# Altium integrated library Cats_and_Dogs_Schematics_ESE516.IntLib: 76 symbols (part 2 of 2)
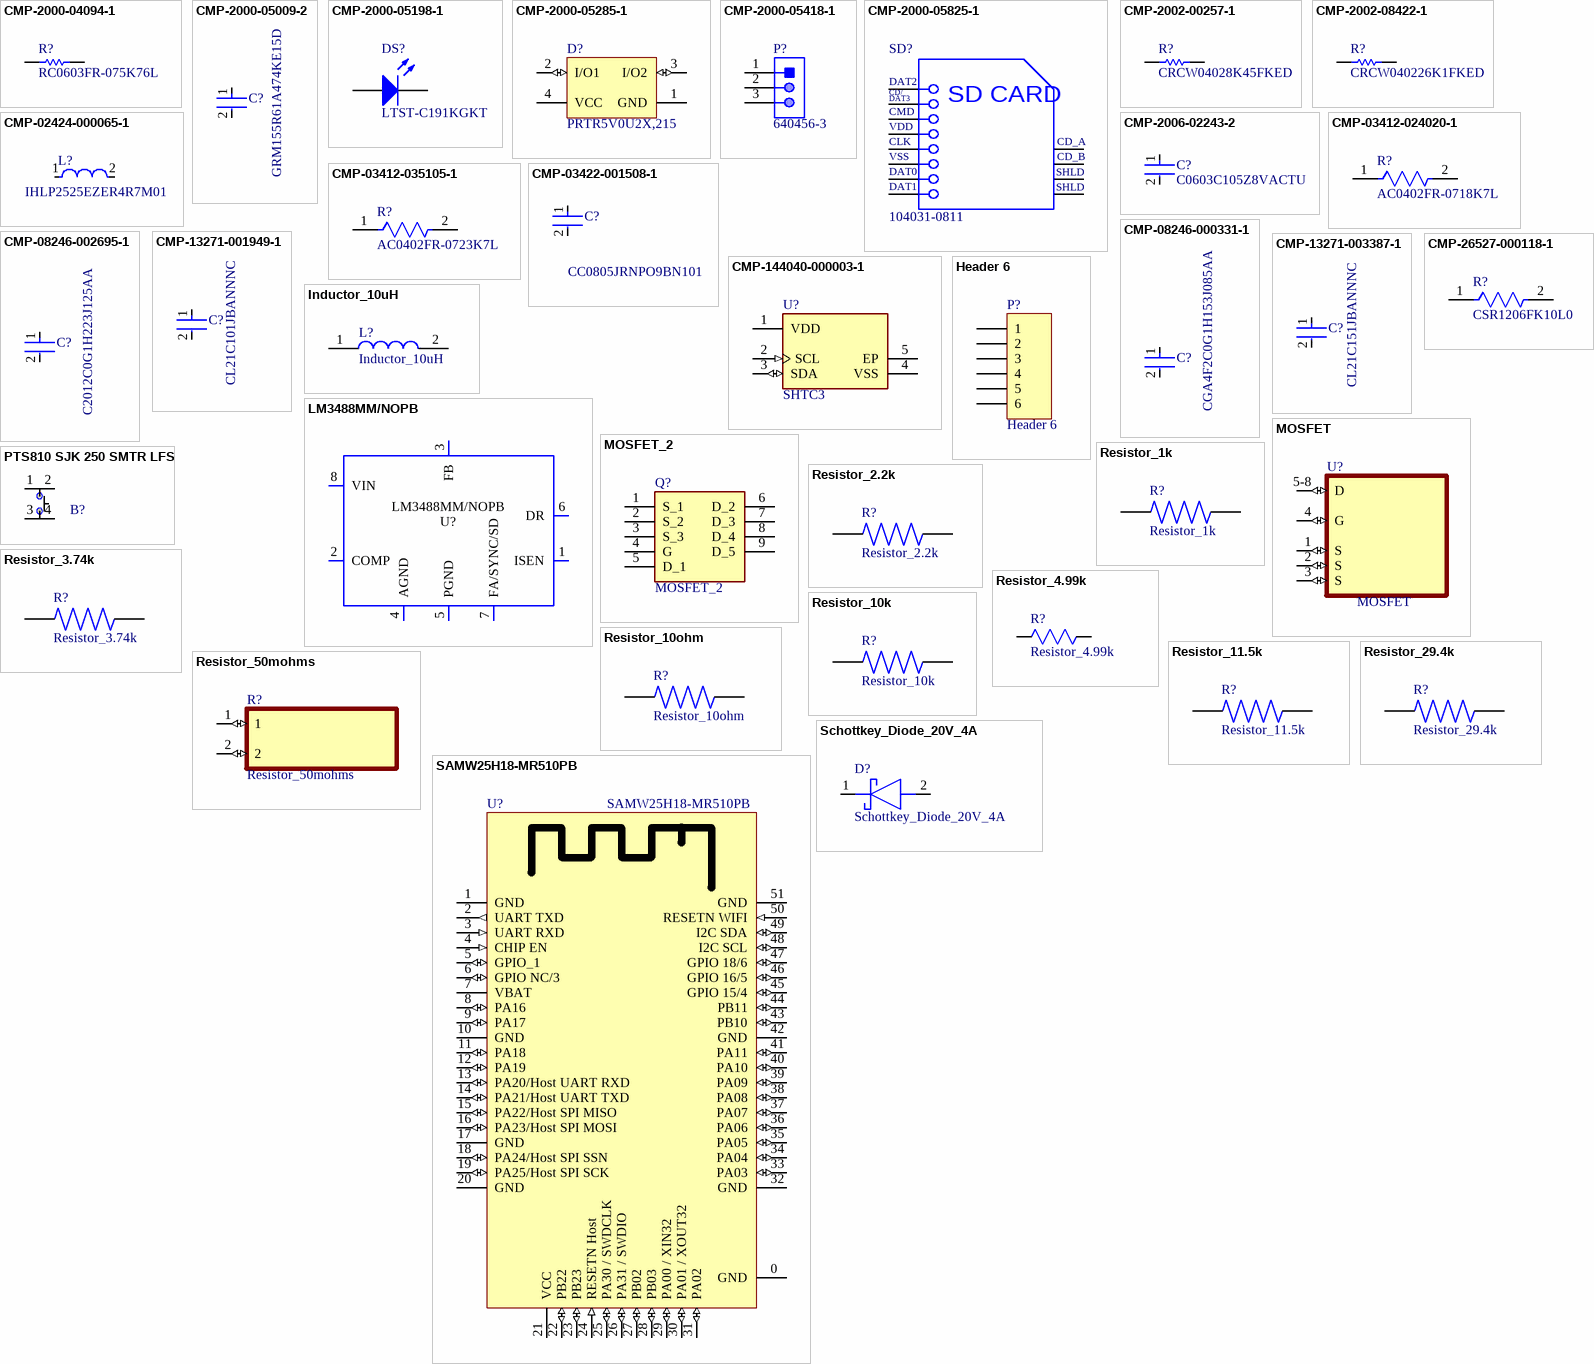
[diagram p2: symbols CMP-2000-04094-1 to Schottkey_Diode_20V_4A]

## CMP-2000-05198-1
designator DS?, comment LTST-C191KGKT
Chip LED, Green, 574 nm, 40 pF, -55 to 85 degC, 2-Pin SMD, RoHS, Tape and Reel; Manufacturer: Lite-On; Manufacturer: Vishay Lite-On; Rad Hardened: No; Emitting Color: YellowGreen; Product Height (mm): 0.55mm; Forward Voltage: 2.4V; Number of Elements: 1; Dominant Wave Length: 571nm; DELETED: Compliant; Viewing Angle: 130deg; High Brightness: Yes; Peak Wavelength: 574nm; Type: Uni-Color; Forward Current: 30mA; Product Length (mm): 1.6mm; Luminous Intensity: 35mcd; Test Current (It): 20mA; Chip Material: AlGaInP; Product Depth (mm): 0.8mm; Shape Type: Rectangular; Reverse Voltage: 5V; Power Dissipation: 75W; Pin Count: 2; Lens Dimensions: 1.1X0.8X0.37mm; Packaging: TapeandReel; Main Category: ChipLED; Operating Temperature Classification: Industrial; Package Type: ChipLed; Mounting: SurfaceMount; Lum Intensity: 35mcd; Operating Temp Range: -55Cto85C; Datasheet Version: Jan-07; Datasheet URL: http://download.siliconexpert.com/pdfs/2007/08/26/semi_b/manual/lot/ds/ltst-c191kgkt.pdf; Manufacturer URL: http://www.us.liteon.com/; Manufacturer Part Number: LTST-C191KGKT
footprint LITE-ON-LTST-C191KRKT-2_V (Chip, 2-Leads, Body 1.6x0.8mm)
pins: 1 A, 2 K

## CMP-2000-05285-1
designator D?, comment PRTR5V0U2X,215
Ultra Low Capacitance Double Rail-to-Rail ESD Protection Diode, 5.5 V, 1 pF, -40 to 85 degC, 4-Pin SOT143B, RoHS, Tape and Reel; Manufacturer: NXP Semiconductors; Manufacturer Part Number: PRTR5V0U2X215; Capacitance Value: 16pF; Number of Elements: 1; Rad Hardened: No; Reverse Breakdown Voltage: 6V; Working Voltage (Max): 5.5V; Polarity: Uni-Directional; Configuration: Quad; Leakage Current: 0.1uA; Product Height (mm): 1mm; Suppressor Type: DiodeArrays; Product Length (mm): 3mm; Product Depth (mm): 1.4mm; ESD Protection Voltage: 8KV@ContactDisc; Package Type: SOT; Mounting: SurfaceMount; Packaging: TapeandReel; Datasheet Version: Rev. 02, 01/2008; Reverse Stand-off Voltage: 5.5V; Manufacturer URL: http://www.nxp.com/; Operating Temp Range: -40Cto85C; Operating Temperature Classification: Industrial; Working Voltage: 5.5V; Operating Temperature Min Deg. C: -40C; Datasheet URL: https://datasheet.ciiva.com/4479/prtr5v0u2x-102853-4479461.pdf; Leakage Current (Max): 0.1uA; Direction Type: Uni-Directional; Pin Count: 3+Tab; Operating Temperature Max Deg. C: 85C; Mounting Style: SurfaceMount; Package / Case: SOT
footprint NXP-SOT143B-4_V (SOT143, 4-Leads, Body 3x1.4mm)
pins: 1 GND (power) "ground", 2 I/O1 (io) "input/output 1", 3 I/O2 (io) "input/output 2", 4 VCC (power) "supply voltage"

## CMP-2000-05418-1
designator P?, comment 640456-3
Male Header, Pitch 2.54 mm, 1 x 3 Position, Height 10.03 mm, Tail Length 3.56 mm, -55 to 105 degC; Manufacturer: TE Connectivity; Agency Approvals: CSA,UL; Angle: Straight; Number of Positions: 3; Standards: RoHSCompliant,ELVCompliant,UL94V-0; Current, Rating: 5 / A; Connector Type: MTA-100; Mount Angle: Vertical; Material, Housing: Polyester; Temperature, Operating: -55to+105 / degC; Voltage, Rating: 250 / V; Color, Housing: White; Contact Centerline Spacing: 0.100 / in.; Special Features: Pinstrip; Material, Contact: CopperAlloy; Contact Termination Area Plating: Tin; Primary Type: InterconnectSystem; Pin Spacing: 0.1 / "; Brand/Series: MTA-100Series; Mounting Hole Size: 0.04 / "; Manufacturer URL: http://www.te.com/; Datasheet URL: https://datasheet.ciiva.com/16456/eng-ds-82056-mta-0608-16456886.pdf; Flammability Rating: UL94V-0; Mounting Type: PCMount; Contact Mating Area Plating: Tin; Datasheet Version: Jun-08; Number of Rows: 1; Termination: Solder; Type: PCBPlug; Length, Pin: 0.14 / "; Color: White; Contact Plating: Tin; Contact Shape: Square; Number of Contacts: 3; Size, Post: 0.025 / in.; Length, Terminal Post: 0.14 / in.; Length, Overall: 0.3 / "; Manufacturer Part Number: 640456-3
footprint TECO-640456-3 (Through Hole, 3-Leads, Body 7.62x5.72mm, Pitch 2.54mm)
pins: 1, 2, 3

## CMP-2000-05825-1
designator SD?, comment 104031-0811
Micro SD Card, RA, -25 to 85 degC, 8-Pin SMD, RoHS, Tape and Reel; Manufacturer Part Number: 1040310811; Voltage Rating: 10VAC/DC; Number of Contacts: 8; Insertion - Extraction Style: Push-Pull; Pitch: 1.1mm; Mating Cycles: 10000; Brand: Molex; Current Rating: 500mA; Manufacturer URL: http://www.molex.com/; Card Type: microSD; Mounting Type: Standard; Height: 1.42mm; Mounting Technology: SurfaceMount; Contact Plating: Gold; Product Category: MemoryCardConnectors; Package Description: 8-Pin Surface Mount Device, Body 11.95 x 11.4 mm, Pitch 1.1 mm; Datasheet URL: http://www.molex.com/pdm_docs/sd/1040310811_sd.pdf; Termination Style: SMD; Length: 11.4mm; Housing Material: LiquidCrystalPolymer(LCP); Orientation: RightAngle; RoHS: True; Contact Material: PhosphorBronze; Datasheet Version: Rev. E, 04/2006; Packaging: Reel; Manufacturer: Molex; Series: 104031; Product: CardConnectors; Number of Rows: 1Row; Package Reference: 104031-0811
footprint MOLX-104031-0811_V (Micro SD, 8-Leads, Body 11.95x11.4mm, Pitch 1.1mm)
pins: 1 CD/DAT3, 2 CMD, 3 VSS1, 4 VDD, 5 CLK, 6 VSS2, 7 DAT0, 8 DAT1, 9 CD_A, 10 CD_B, 11 SHLD1, 12 SHLD2
text: DAT2; CD/; DAT3; SD CARD; VSS; SHLD

## CMP-2002-00257-1
designator R?, comment CRCW04028K45FKED
8.45 kOhms ±1% 0.063W, 1/16W Chip Resistor 0402 (1005 Metric) Automotive AEC-Q200 Thick Film; Manufacturer: Vishay Dale; Manufacturer: Vishay; Part Number: CRCW04028K45FKED; Manufacturer Part Number: CRCW04028K45FKED
footprint RESC1005X40X25LL05T05 (Chip Resistor, 2-Leads, Body 1.00x0.50mm, IPC High Density)
footprint RESC1005X40X25NL05T05 (Chip Resistor, 2-Leads, Body 1.00x0.50mm, IPC Medium Density)
footprint RESC1005X40X25ML05T05 (Chip Resistor, 2-Leads, Body 1.00x0.50mm, IPC Low Density)
pins: 1, 2
1 alternate drawing of the same symbol

## CMP-2002-08422-1
designator R?, comment CRCW040226K1FKED
26.1 kOhms ±1% 0.063W, 1/16W Chip Resistor 0402 (1005 Metric) Automotive AEC-Q200 Thick Film; Manufacturer: Vishay Dale; Manufacturer: Vishay; Part Number: CRCW040226K1FKED; Manufacturer Part Number: CRCW040226K1FKED
footprint RESC1005X40X25LL05T05 (Chip Resistor, 2-Leads, Body 1.00x0.50mm, IPC High Density)
footprint RESC1005X40X25ML05T05 (Chip Resistor, 2-Leads, Body 1.00x0.50mm, IPC Low Density)
footprint RESC1005X40X25NL05T05 (Chip Resistor, 2-Leads, Body 1.00x0.50mm, IPC Medium Density)
pins: 1, 2
1 alternate drawing of the same symbol

## CMP-2006-02243-2
designator C?, comment C0603C105Z8VACTU
CAP CER 1UF 10V Y5V 0603; Manufacturer: KEMET; Dielectric Material: Ceramic; Tolerance: 80%; Dissipation Factor: 10%; Case/Package: 0603; Width: 0.8mm; Radiation Hardening: No; Lead Pitch: 0.7mm; Termination: SMD/SMT; Min Operating Temperature: -30°C; Voltage Rating (DC): 10V; Length: 1.6mm; Packaging: Tape and Reel; Mount: Surface Mount; REACH SVHC: No SVHC; Series: C; Case Code (Imperial): 0603; Package Quantity: 1; Thickness: 0.035inch; Capacitance: 1uF; Height: 0.8mm; Dielectric: Y5V; Construction: Flat; Lead Free: Lead Free; Case Code (Metric): 1608; Max Operating Temperature: 85°C; Voltage Rating: 10V; Depth: 0.8mm; RoHS Compliant: Yes; Manufacturer Part Number: C0603C105Z8VACTU
footprint FP-C0603-CG-MFG
footprint FP-C0603-CG-IPC_C
footprint FP-C0603-CG-IPC_B
footprint FP-C0603-CG-IPC_A
pins: 1, 2

## CMP-02424-000065-1
designator L?, comment IHLP2525EZER4R7M01
Commercial Inductors, High Saturation Series 4.7uH 6.5A 30.3mΩ 20%; Manufacturer: Vishay Dale; DC Resistance (DCR): 30.3mR; Saturation Current: 7A; Shielding: Shielded; Core Material: Ferrite; Self Resonant Frequency: 1MHz; Test Frequency: 100kHz; Number of Pins: 2; Case/Package: 2525; Lead Free: Lead Free; Depth: 6.72mm; Height - Seated (Max): 0.197inch; Mount: Surface Mount; Termination: SMD/SMT; Max Operating Temperature: 125°C; Inductance Tolerance: 20%; Military Standard: Not; Height: 5mm; RMS Current (Irms): 6.5A; Current Rating: 6.5A; Radiation Hardening: No; Package Quantity: 500; Packaging: Tape and Reel; Width: 0.255inch; Max DC Current: 6.5A; Length: 6.86mm; Min Operating Temperature: -55°C; Tolerance: 20%; Inductance: 4.7uH; Manufacturer Part Number: IHLP2525EZER4R7M01
footprint FP-IHLP-2525EZ-FP_2_413x3-MFG
pins: 1, 2

## CMP-03412-024020-1
designator R?, comment AC0402FR-0718K7L
RES SMD 18.7K OHM 1% 1/16W 0402; Manufacturer: Yageo; Power Rating: 0.0625W; Voltage Rating: 50V; Tolerance: 0.01; Resistance: 18.7KΩ; Automotive Grade: Grade 0; Value: 18.7KΩ; Octopart: https://octopart.com/ac0402fr-0718k7l-yageo-71366607; Device Class L1: Passive Components; Digikey Description: RES SMD 18.7K OHM 1% 1/16W 0402; Composition: Thick Film; Device Class L3: Chip SMD Resistors; Manufacturer Part Number: AC0402FR-0718K7L; Series: AC; Footprint Url: http://www.yageo.com/exep/pages/download/literatures/PYu-R_Mount_10.pdf; RoHS: TRUE; Ipc Land Pattern Name: RESC10050X32; ComponentLink2Description: Datasheet; Temperature Range High: +155°C; Package: AC0402; Automotive: Yes; Device Class L2: Resistors; ComponentLink2URL: http://www.yageo.com/documents/recent/PYu-AC_51_RoHS_L_6.pdf; Temperature: -55°C to +155°C; Height: 0.37mm; Lead Free: Yes; Category: Res; Temperature Range Low: -55°C
footprint FP-AC0402-MFG
footprint FP-AC0402-IPC_C
footprint FP-AC0402-IPC_B
footprint FP-AC0402-IPC_A
pins: 1, 2

## CMP-03412-035105-1
designator R?, comment AC0402FR-0723K7L
RES SMD 23.7K OHM 1% 1/16W 0402; Manufacturer: Yageo; Power Rating: 0.0625W; Value: 23.7KΩ; Voltage Rating: 50V; Tolerance: 0.01; Automotive Grade: Grade 0; Device Class L3: Chip SMD Resistors; Device Class L2: Resistors; Octopart: https://octopart.com/ac0402fr-0723k7l-yageo-71366670; Composition: Thick Film; Mouser Description: Thick Film Resistors - SMD 1/16W 23.7K ohm 1% AEC-Q200; Lead Free: Yes; Height: 0.37mm; Temperature: -55°C to +155°C; Temperature Range High: +155°C; Device Class L1: Passive Components; Package: AC0402; Digikey Description: RES SMD 23.7K OHM 1% 1/16W 0402; Temperature Range Low: -55°C; Footprint Url: http://www.yageo.com/exep/pages/download/literatures/PYu-R_Mount_10.pdf; ComponentLink2Description: Datasheet; Automotive: Yes; ComponentLink2URL: http://www.yageo.com/documents/recent/PYu-AC_51_RoHS_L_6.pdf; Category: Res; Manufacturer Part Number: AC0402FR-0723K7L; Ipc Land Pattern Name: RESC10050X32; RoHS: TRUE; Resistance: 23.7KΩ; Series: AC
footprint FP-AC0402-MFG
footprint FP-AC0402-IPC_C
footprint FP-AC0402-IPC_B
footprint FP-AC0402-IPC_A
pins: 1, 2

## CMP-03422-001508-1
designator C?, comment CC0805JRNPO9BN101
CAP CER 100PF 50V C0G/NPO 0805; Manufacturer: Yageo; Insulation Resistance: 100GR; Dielectric: C0G; Temperature Coefficient: 30ppm/°C; Dielectric Material: Ceramic; Tolerance: 5%; REACH SVHC: No SVHC; Packaging: Tape and Reel; Max Operating Temperature: 125°C; Case Code (Imperial): 0805; Number of Pins: 2; Height: 0.6mm; Case/Package: 0805; Resistor Type: Ceramic; Length: 2mm; Width: 1.25mm; RoHS Compliant: Yes; Thickness: 0.024inch; Case Code (Metric): 2012; Radiation Hardening: No; Series: CC; Package Quantity: 1; Voltage: 50V; Voltage Rating (DC): 50V; Capacitance: 100pF; Mount: Surface Mount; Voltage Rating: 50V; Min Operating Temperature: -55°C; Lead Free: Lead Free; Termination: SMD/SMT; Depth: 1.25mm; Manufacturer Part Number: CC0805JRNPO9BN101
footprint FP-CC0805-0_1-0_7-IPC_A
footprint FP-CC0805-0_1-0_7-IPC_B
footprint FP-CC0805-0_1-0_7-IPC_C
footprint FP-CC0805-0_1-0_7-MFG
pins: 1, 2

## CMP-08246-000331-1
designator C?, comment CGA4F2C0G1H153J085AA
Cap Ceramic 15nF 50V C0G 5% Pad SMD 0805 +125°C Automotive T/R; Manufacturer: TDK; Weight: 0.000194oz; Width: 0.049inch; Tolerance: 5%; REACH SVHC: No SVHC; Voltage Rating (DC): 50V; Case Code (Imperial): 0805; Depth: 1.25mm; Voltage Rating: 50V; Case Code (Metric): 2012; Thickness: 0.037inch; Height: 0.85mm; Max Operating Temperature: 125°C; Termination: SMD/SMT; Packaging: Tape and Reel; Mount: Surface Mount; Dielectric: C0G; Package Quantity: 1; Case/Package: 0805; Ratings: AEC-Q200; Capacitance: 15nF; Composition: Ceramic; Lead Free: Lead Free; Length: 2mm; Min Operating Temperature: -55°C; Manufacturer Part Number: CGA4F2C0G1H153J085AA
footprint FP-CGA4J-IPC_B
footprint FP-CGA4J-IPC_C
footprint FP-CGA4J-MFG
footprint FP-CGA4J-IPC_A
pins: 1, 2

## CMP-08246-002695-1
designator C?, comment C2012C0G1H223J125AA
CAP CER 0.022UF 50V C0G 0805; Manufacturer: TDK; Capacitance: 22nF; Tolerance: 5%; Dielectric Material: Ceramic; Temperature Coefficient: 30ppm/°C; Max Operating Temperature: 125°C; Voltage Rating: 50V; Packaging: Tape and Reel; Dielectric: C0G; Voltage Rating (DC): 50V; Package Quantity: 1; Case/Package: 0805; REACH SVHC: No SVHC; Weight: 0.000194oz; Length: 2mm; Case Code (Imperial): 0805; Height: 1.25mm; Series: C; Termination: SMD/SMT; Width: 0.049inch; Min Operating Temperature: -55°C; Lead Free: Lead Free; RoHS Compliant: Yes; Mount: Surface Mount; Thickness: 0.057inch; Radiation Hardening: No; Depth: 1.25mm; Voltage: 50V; Case Code (Metric): 2012; Construction: Flat; Manufacturer Part Number: C2012C0G1H223J125AA
footprint FP-C2012-125-0_2-IPC_C
footprint FP-C2012-125-0_2-IPC_B
footprint FP-C2012-125-0_2-MFG
footprint FP-C2012-125-0_2-IPC_A
pins: 1, 2

## CMP-13271-001949-1
designator C?, comment CL21C101JBANNNC
CL21 Series 0805 100pF 50V ±5% Tolerance C0G Multilayer Ceramic Chip Capacitor; Manufacturer: Samsung; Temperature Coefficient: 300ppm/°C; Voltage Rating (DC): 50V; Material: Ceramic; Capacitance: 100pF; Height: 0.65mm; Thickness: 0.03inch; Case/Package: 0805; Voltage Rating: 50V; Max Operating Temperature: 125°C; Voltage: 50V; Dielectric: C0G; Length: 2mm; Case Code (Metric): 2012; Packaging: Tape and Reel; Tolerance: 5%; Min Operating Temperature: -55°C; Radiation Hardening: No; Lead Free: Lead Free; Contact Plating: Tin; Width: 0.049inch; Mount: Surface Mount; Case Code (Imperial): 0805; Depth: 1.25mm; Manufacturer Part Number: CL21C101JBANNNC
footprint FP-CL21-IPC_C
footprint FP-CL21-IPC_B
footprint FP-CL21-IPC_A
pins: 1, 2

## CMP-13271-003387-1
designator C?, comment CL21C151JBANNNC
CL21 Series 0805 150pF 50V ±5% Tolerance C0G Multilayer Ceramic Chip Capacitor; Manufacturer: Samsung; Height: 0.65mm; Case Code (Metric): 2012; Material: Ceramic; Voltage Rating: 50V; Length: 2mm; Package Quantity: 1; Mount: Surface Mount; Case Code (Imperial): 0805; Depth: 1.25mm; Dielectric: C0G; Contact Plating: Tin; Thickness: 0.03inch; Case/Package: 0805; Max Operating Temperature: 125°C; Min Operating Temperature: -55°C; Tolerance: 5%; Packaging: Tape and Reel; Radiation Hardening: No; Voltage: 50V; Capacitance: 150pF; Width: 0.049inch; Manufacturer Part Number: CL21C151JBANNNC
footprint FP-CL21-IPC_B
footprint FP-CL21-IPC_C
footprint FP-CL21-IPC_A
pins: 1, 2

## CMP-26527-000118-1
designator R?, comment CSR1206FK10L0
RES 0.01 OHM 1% 1/2W 1206; Manufacturer: Stackpole Electronics; Max Power Dissipation: 500mW; Temperature Coefficient: 100ppm/°C; Resistance: 10mR; RoHS Compliant: Yes; Construction: Rectangular; Resistor Type: Thick Film; Military Standard: Not; Lead Free: Lead Free; Size Code: 1206; Case/Package: 1206; Case Code (Metric): 3216; Radiation Hardening: No; Contact Plating: Tin; Series: CSR; Max Operating Temperature: 155°C; Power Rating: 500mW; Mount: Surface Mount; Number of Terminations: 2; Packaging: Tape and Reel; Length: 0.12inch; Min Operating Temperature: -55°C; Width: 0.061inch; Depth: 1.55mm; Case Code (Imperial): 1206; Height: 0.026inch; Tolerance: 1%; Manufacturer Part Number: CSR1206FK10L0
footprint FP-CSR1206-MFG
footprint FP-CSR1206-IPC_B
footprint FP-CSR1206-IPC_C
footprint FP-CSR1206-IPC_A
pins: 1, 2

## CMP-144040-000003-1
designator U?, comment SHTC3
SENSOR HUMI/TEMP I2C 2% SMD; Manufacturer: Sensirion; Operating Supply Current: 0.3-900uA; Resolution: 16bits; Min Supply Voltage: 1.62V; Max Supply Voltage: 3.6V; Category: IC; Device Class L3: unset; ComponentLink2URL: https://www.sensirion.com/fileadmin/user_upload/customers/sensirion/Dokumente/0_Datasheets/Humidity/Sensirion_Humidity_Sensors_SHTC3_Datasheet.pdf; Ipc Land Pattern Name: DFN200X200X75-4; RoHS: TRUE; Height: 0.75mm; Interface: I2C; Temperature Range High: +125°C; Accuracy: 2%; Sensor Output: I2C; Automotive: No; Package: 0; Device Class L1: Sensors; Manufacturer Part Number: SHTC3; Digikey Description: SENSOR HUMI/TEMP I2C 2% SMD; Lead Free: Yes; Temperature: -40°C to +125°C; Device Class L2: Temperature and Humidity Sensors; ComponentLink2Description: Datasheet; Octopart: https://octopart.com/shtc3-sensirion-91912225; Mouser Description: SHTC3 Series 0 to 100% RH 3.6 V Humidity and Temperature Sensor IC - DFN-4; Temperature Range Low: -40°C
footprint FP-SHTC3-MFG
footprint FP-SHTC3-IPC_C
footprint FP-SHTC3-IPC_B
footprint FP-SHTC3-IPC_A
pins: 1 VDD (power), 2 SCL (in), 3 SDA (io), 4 VSS (power), 5 EP (power)

## Header 6
designator P?
Header, 6-Pin; LatestRevisionDate: 17-Jul-2002; LatestRevisionNote: Re-released for DXP Platform.; Publisher: Altium Limited
footprint HDR1X6 (Connector; Header; 6 Position)
signal-integrity model Connector
pins: 1, 2, 3, 4, 5, 6

## Inductor_10uH
designator L?
Inductor Power Semi-Shielded Wirewound 10uH 20% 100KHz 17Q-Factor Ferrite 2.5A 58.6mOhm DCR T/R; Manufacturer: Bourns; Manufacturer Part Number: SRN6045-100M; Material: Steel; DC Resistance (DCR): 58.6mR; Saturation Current: 3A; Self Resonant Frequency: 15MHz; Supplier 1: Digi-Key; Supplier Part Number 1: SRN6045-100MCT-ND; RoHS: Yes; Category: Fixed Inductors; Stock 1: 1938; Pricing 1: 1=0.62000, 10=0.54400, 25=0.50520, 50=0.42740, 100=0.38860, 250=0.36528, 500=0.32640 (USD); Mount: Surface Mount; Case/Package: Nonstandard; Number of Pins: 2; Core Material: Ferrite; Weight: 0.027725oz; Min Operating Temperature: -40°C; Max Operating Temperature: 125°C; Tolerance: 20%; Inductance: 10uH; Max DC Current: 2.5A; Package Quantity: 1; Current Rating: 2.5A; Shielding: Shielded; Packaging: Tape and Reel; Inductance Tolerance: 20%; Resistor Type: Wirewound; Test Frequency: 100kHz; Termination: SMD/SMT; RMS Current (Irms): 2.5A; DC Current: 2.5A; Series: SRN6045; Sample Rate (Hz): 100kHz; Length: 6mm; Width: 6mm; Height: 4.5mm; Height - Seated (Max): 0.177inch; Depth: 6.2mm; REACH SVHC: No SVHC; Military Standard: Not; RoHS Compliant: Yes; ComponentLink1URL: https://datasheet.ciiva.com/11802/0900766b80fe1f3e-11802575.pdf?src-supplier=RSComponents; ComponentLink1Description: https://datasheet.ciiva.com/11802/0900766b80fe1f3e-11802575.pdf?src-supplier=RSComponents; ComponentLink2URL: https://datasheet.ciiva.com/6689/srn6045-6689370.pdf?src-supplier=Digi-Key; ComponentLink2Description: https://datasheet.ciiva.com/6689/srn6045-6689370.pdf?src-supplier=Digi-Key; ComponentLink3URL: https://datasheet.ciiva.com/6689/srn6045-6689372.pdf?src-supplier=Digi-Key; ComponentLink3Description: https://datasheet.ciiva.com/6689/srn6045-6689372.pdf?src-supplier=Digi-Key; ComponentLink4URL: https://datasheet.ciiva.com/6689/srn6045-6689374.pdf?src-supplier=Digi-Key; ComponentLink4Description: https://datasheet.ciiva.com/6689/srn6045-6689374.pdf?src-supplier=Digi-Key; ComponentLink5URL: https://datasheet.ciiva.com/8512/srn6045-8512981.pdf?src-supplier=Avnet; ComponentLink5Description: https://datasheet.ciiva.com/8512/srn6045-8512981.pdf?src-supplier=Avnet; ComponentLink6URL: https://datasheet.ciiva.com/7849/1875285-7849518.pdf?src-supplier=Element14; ComponentLink6Description: https://datasheet.ciiva.com/7849/1875285-7849518.pdf?src-supplier=Element14; ComponentLink7URL: https://datasheet.ciiva.com/17113/70231653-17113272.pdf?src-supplier=Allied+Electronics; ComponentLink7Description: https://datasheet.ciiva.com/17113/70231653-17113272.pdf?src-supplier=Allied+Electronics; ComponentLink8URL: https://datasheet.ciiva.com/28561/1875285-28561101.pdf?src-supplier=Element14; ComponentLink8Description: https://datasheet.ciiva.com/28561/1875285-28561101.pdf?src-supplier=Element14; ComponentLink9URL: https://datasheet.ciiva.com/17284/srn6045-17284746.pdf?src-supplier=Avnet+Europe; ComponentLink9Description: https://datasheet.ciiva.com/17284/srn6045-17284746.pdf?src-supplier=Avnet+Europe; ComponentLink10URL: https://datasheet.ciiva.com/48691/001056442-da-01-en-mag-abg-leist-ind-srn6045-100m-10uh-smd-48691818.pdf?src-supplier=Conrad; ComponentLink10Description: https://datasheet.ciiva.com/48691/001056442-da-01-en-mag-abg-leist-ind-srn6045-100m-10uh-smd-48691818.pdf?src-supplier=Conrad
footprint Inductor_10uH
pins: 1, 2

## LM3488MM/NOPB
designator U?
Manufacturer Name: Texas Instruments; PackageReference: LM3488MM/NOPB; Manufacturer Part Number: LM3488MM/NOPB; Value: N/A
footprint Boost_Converter_Footprint
pins: 1 ISEN, 2 COMP, 3 FB, 4 AGND, 5 PGND, 6 DR, 7 FA/SYNC/SD, 8 VIN

## MOSFET
designator U?
N沟道 VDS=30V VGS=+10V，-8V ID=14A P=2.7W; Manufacturer: Texas Instruments; Manufacturer Part Number: CSD17308Q3T; Max Power Dissipation: 2.7W; Element Configuration: Single; Drain to Source Voltage (Vdss): 30V; Continuous Drain Current (ID): 44A; Rds On Max: 10.3mR; Input Capacitance: 700pF; Threshold Voltage: 1.3V; Supplier 1: Digi-Key; Supplier Part Number 1: 296-44075-6-ND; RoHS: Yes; Category: Integrated Circuits (ICs); Pricing 1: 1=1.06000, 10=0.94800, 100=0.73880 (USD); Mount: Surface Mount; Number of Pins: 8; Min Operating Temperature: -55°C; Max Operating Temperature: 150°C; Packaging: Tape and Reel; Lead Free: Contains Lead; REACH SVHC: No SVHC; RoHS Compliant: Yes; ComponentLink1URL: http://www.ti.com/lit/pdf/slvt145?src-supplier=Digi-Key; ComponentLink1Description: http://www.ti.com/lit/pdf/slvt145?src-supplier=Digi-Key; ComponentLink2URL: http://www.ti.com/lit/ds/symlink/csd17308q3.pdf?src-supplier=Digi-Key; ComponentLink2Description: http://www.ti.com/lit/ds/symlink/csd17308q3.pdf?src-supplier=Digi-Key; ComponentLink3URL: http://www.ti.com/lit/gpn/csd17308q3?src-supplier=Mouser; ComponentLink3Description: http://www.ti.com/lit/gpn/csd17308q3?src-supplier=Mouser; ComponentLink4URL: http://www.ti.com/general/docs/lit/getliterature.tsp?genericPartNumber=CSD17308Q3&&fileType=pdf&src-supplier=Element14; ComponentLink4Description: http://www.ti.com/general/docs/lit/getliterature.tsp?genericPartNumber=CSD17308Q3&&fileType=pdf&src-supplier=Element14
footprint MOSFET
pins: 1 S (io), 2 S (io), 3 S (io), 4 G (io), 5-8 D (io)

## MOSFET_2
designator Q?
25-V, N channel NexFET™ power MOSFET, single SON 5 mm x 6 mm, 5.5 mOhm 8-VSONP -55 to 150; Manufacturer: Texas Instruments; Manufacturer Part Number: CSD16342Q5A; Rds On Max: 4.7mR; Drain to Source Voltage (Vdss): 25V; Continuous Drain Current (ID): 100A; Max Power Dissipation: 3W; Input Capacitance: 1.35nF; Rise Time: 16.6ns; Drain to Source Resistance: 3.8mR; Number of Elements: 1; Gate to Source Voltage (Vgs): 10V; Threshold Voltage: 850mV; Turn-On Delay Time: 5.2ns; Turn-Off Delay Time: 13.4ns; Fall Time: 3.1ns; Polarity: N-CHANNEL; Supplier 1: Digi-Key; Supplier Part Number 1: 296-30314-1-ND; RoHS: Yes; Category: Integrated Circuits (ICs); Stock 1: 6285; Pricing 1: 1=1.22000, 10=1.08700, 100=0.84760, 500=0.70016, 1000=0.58625 (USD); Mount: Surface Mount; Case/Package: SON; Number of Pins: 8; Contact Plating: Tin; Min Operating Temperature: -55°C; Max Operating Temperature: 150°C; Packaging: Tape and Reel; Series: NexFET™; Package Quantity: 1; Power Dissipation: 3W; Element Configuration: Single; Length: 5.8mm; Width: 5mm; Height: 1.1mm; Radiation Hardening: No; REACH SVHC: No SVHC; Lead Free: Contains Lead; RoHS Compliant: Yes; ComponentLink1URL: https://datasheet.ciiva.com/6387/csd16342q5a-6387160.pdf?src-supplier=Digi-Key; ComponentLink1Description: https://datasheet.ciiva.com/6387/csd16342q5a-6387160.pdf?src-supplier=Digi-Key; ComponentLink2URL: https://datasheet.ciiva.com/4444/slps369a-128079-4444253.pdf?src-supplier=Mouser; ComponentLink2Description: https://datasheet.ciiva.com/4444/slps369a-128079-4444253.pdf?src-supplier=Mouser; ComponentLink3URL: https://datasheet.ciiva.com/6387/csd16342q5a-6387162.pdf?src-supplier=Digi-Key; ComponentLink3Description: https://datasheet.ciiva.com/6387/csd16342q5a-6387162.pdf?src-supplier=Digi-Key; ComponentLink4URL: https://datasheet.ciiva.com/6387/csd16342q5a-6387165.pdf?src-supplier=Digi-Key; ComponentLink4Description: https://datasheet.ciiva.com/6387/csd16342q5a-6387165.pdf?src-supplier=Digi-Key; ComponentLink5URL: https://datasheet.ciiva.com/14192/csd16342q5a-14192879.pdf?src-supplier=Avnet; ComponentLink5Description: https://datasheet.ciiva.com/14192/csd16342q5a-14192879.pdf?src-supplier=Avnet
footprint MOSFET_2
pins: 1 S_1, 2 S_2, 3 S_3, 4 G, 5 D_1, 6 D_2, 7 D_3, 8 D_4, 9 D_5

## PTS810 SJK 250 SMTR LFS
designator B?  (value not drawn)
SWITCH TACTILE SPST-NO 0.05A 16V Tactile Switch SPST-NO Top Actuated Surface Mount; Manufacturer: ITT /  C&K Components; Part # Aliases: Y97LT25B5DBFP; Operating Force: 2.6 N; Actuator: Oval; Current Rating: 50 mA; Voltage Rating DC: 16 VDC; Contact Form: SPST; Switch Function: OFF - (ON); Mounting Direction: Straight; Stem Height: 2.5 mm; Brand: C&K Components; Travel: 0.15 mm; Manufacturer Part Number: PTS810SJK250SMTRLFS; Product Category: Tactile Switches; RoHS: Details; Termination Style: J Form Lead; Mounting Style: SMD/SMT; Color: White; Packaging: Reel; Contact Plating: Silver; Operating Temperature Range: - 40 C to + 85 C; Series: PTS810; Factory Pack Quantity: 2900; ComponentLink1URL: https://datasheet.ciiva.com/18514/pts810-4mar13-18514061.pdf; ComponentLink1Description: https://datasheet.ciiva.com/18514/pts810-4mar13-18514061.pdf; ComponentLink2URL: https://datasheet.ciiva.com/18514/pts810-4mar13-18514062.pdf; ComponentLink2Description: https://datasheet.ciiva.com/18514/pts810-4mar13-18514062.pdf; ComponentLink3URL: https://datasheet.ciiva.com/18514/pts810-4mar13-18514063.pdf; ComponentLink3Description: https://datasheet.ciiva.com/18514/pts810-4mar13-18514063.pdf; Supplier 1: Digi-Key; Supplier Part Number 1: CKN10503CT-ND
footprint PTS810 SJK 250 SMTR LFS (SWITCH TACTILE SPST-NO 0.05A 16V)
pins: 1 (power), 2 (power), 3 (power), 4 (power)

## Resistor_1k
designator R?
Res Thick Film 0603 1K Ohm 1% 0.1W(1/10W) ±100ppm/C Pad SMD Automotive T/R; Manufacturer: TE Connectivity; Manufacturer Part Number: 1-2176092-8; Resistance: 1kR; Tolerance: 0.1%; Power Rating: 250mW; Temperature Coefficient: 25ppm/°C; Voltage Rating: 150V; Number of Resistors: 1; Supplier 1: Digi-Key; Supplier Part Number 1: A110543CT-ND; RoHS: Yes; Category: Chip SMD Resistors; Stock 1: 9833; Pricing 1: 1=0.64000, 10=0.47400, 100=0.27590 (USD); Mount: Surface Mount; Case/Package: 0805; Case Code (Metric): 2012; Case Code (Imperial): 0805; Min Operating Temperature: -55°C; Max Operating Temperature: 155°C; Packaging: Tape and Reel; Resistor Type: Thin Film; Termination: Solder; Package Quantity: 1000; Number of Terminations: 2; Max Power Dissipation: 250mW; Length: 0.079inch; Width: 0.049inch; Height: 0.026inch; RoHS Compliant: Yes; Lead Free: Lead Free; ComponentLink1URL: https://datasheet.ciiva.com/41821/eng-ds-1773272-j-41821837.pdf?src-supplier=Digi-Key; ComponentLink1Description: https://datasheet.ciiva.com/41821/eng-ds-1773272-j-41821837.pdf?src-supplier=Digi-Key; ComponentLink2URL: https://datasheet.ciiva.com/41823/eng-ds-1773272-j-41823324.pdf?src-supplier=Digi-Key; ComponentLink2Description: https://datasheet.ciiva.com/41823/eng-ds-1773272-j-41823324.pdf?src-supplier=Digi-Key; ComponentLink3URL: https://datasheet.ciiva.com/41808/eng-ds-1773272-j-41808533.pdf?src-supplier=Digi-Key; ComponentLink3Description: https://datasheet.ciiva.com/41808/eng-ds-1773272-j-41808533.pdf?src-supplier=Digi-Key; Supplier 2: Digi-Key; Supplier Part Number 2: RMCF0603FT1K00CT-ND; Stock 2: 2; Pricing 2: 1=0.10000, 10=0.01700, 100=0.00680, 1000=0.00305, 2500=0.00264 (USD); Contact Plating: Tin,Matte; Size Code: 0603; Features: Automotive AEC-Q200; Series: RMCF; Construction: Rectangular; Depth: 0.8mm; Radiation Hardening: No; Military Standard: Not; ComponentLink4URL: https://www.seielect.com/catalog/sei-rmcf_rmcp.pdf?src-supplier=Digi-Key; ComponentLink4Description: https://www.seielect.com/catalog/sei-rmcf_rmcp.pdf?src-supplier=Digi-Key; ComponentLink5URL: https://www.seielect.com/catalog/SEI-RMCF_RMCP.pdf?src-supplier=Avnet; ComponentLink5Description: https://www.seielect.com/catalog/SEI-RMCF_RMCP.pdf?src-supplier=Avnet; ComponentLink6URL: https://www.seielect.com/catalog/SEI-Packaging.pdf?src-supplier=Avnet; ComponentLink6Description: https://www.seielect.com/catalog/SEI-Packaging.pdf?src-supplier=Avnet; ComponentLink7URL: https://www.seielect.com/catalog/SEI-Packaging.pdf?src-supplier=Arrow+Electronics; ComponentLink7Description: https://www.seielect.com/catalog/SEI-Packaging.pdf?src-supplier=Arrow+Electronics; ComponentLink8URL: https://www.seielect.com/catalog/SEI-RMCF_RMCP.pdf?src-supplier=Avnet+Asia; ComponentLink8Description: https://www.seielect.com/catalog/SEI-RMCF_RMCP.pdf?src-supplier=Avnet+Asia; ComponentLink9URL: http://www.seielect.com/Catalog/SEI-rmc.pdf?src-supplier=Future+Electronics; ComponentLink9Description: http://www.seielect.com/Catalog/SEI-rmc.pdf?src-supplier=Future+Electronics; ComponentLink10URL: https://www.seielect.com/catalog/SEI-Packaging.pdf?src-supplier=Verical; ComponentLink10Description: https://www.seielect.com/catalog/SEI-Packaging.pdf?src-supplier=Verical; ComponentLink11URL: https://www.seielect.com/catalog/SEI-Packaging.pdf?src-supplier=Quest; ComponentLink11Description: https://www.seielect.com/catalog/SEI-Packaging.pdf?src-supplier=Quest
footprint Resistor_1k
pins: 1, 2

## Resistor_2.2k
designator R?
Res Thick Film 0805 2.2K Ohm 5% 1/3W ±100ppm/°C Molded SMD SMD T/R; Manufacturer: TE Connectivity Holsworthy; Manufacturer Part Number: CRGH0805J2K2; Resistance: 2.2kR; Power Rating: 330mW; Voltage Rating: 150V; Number of Resistors: 1; Supplier 1: Digi-Key; Supplier Part Number 1: A126438CT-ND; RoHS: Yes; Category: Chip SMD Resistors; Stock 1: 10746; Pricing 1: 1=0.10000, 10=0.07200, 100=0.02930, 1000=0.01317, 2500=0.01143 (USD); Mount: Surface Mount; Case/Package: 0805; Case Code (Imperial): 0805; Case Code (Metric): 2012; Min Operating Temperature: -55°C; Max Operating Temperature: 125°C; Tolerance: 5%; Packaging: Tape and Reel; Resistor Type: Thick Film,Power resistor; Temperature Coefficient: 100ppm/°C; Number of Terminations: 2; Series: CRGH; Termination: Solder; Voltage Rating (DC): 150V; Resistance Tolerance: 5%; Technology: THICK FILM; Length: 2mm; Width: 1.25mm; Height: 0.55mm; Depth: 1.25mm; RoHS Compliant: Yes; REACH SVHC: No SVHC; ELV: Compliant; ComponentLink1URL: https://datasheet.ciiva.com/12564/ng-ds-1773204-g-213532-12564996.pdf?src-supplier=Mouser; ComponentLink1Description: https://datasheet.ciiva.com/12564/ng-ds-1773204-g-213532-12564996.pdf?src-supplier=Mouser; ComponentLink2URL: https://datasheet.ciiva.com/22670/1755795-22670438.pdf?src-supplier=Element14; ComponentLink2Description: https://datasheet.ciiva.com/22670/1755795-22670438.pdf?src-supplier=Element14
footprint Resistor_2.2k
pins: 1, 2

## Resistor_3.74k
designator R?
Res Thick Film 0603 3.74K Ohm 1% 1/10W ±100ppm/°C Molded SMD Paper T/R; Manufacturer: Yageo; Manufacturer Part Number: RC0603FR-073K74L; Resistance: 3.74kR; Power Rating: 100mW; Voltage Rating: 50V; Working Voltage: 75V; Supplier 1: Digi-Key; Supplier Part Number 1: 311-3.74KHRCT-ND; RoHS: Yes; Category: Chip SMD Resistors; Stock 1: 31077; Pricing 1: 1=0.10000, 10=0.02400, 100=0.00970, 1000=0.00436, 2500=0.00378 (USD); Case/Package: 0603; Contact Plating: Tin,Matte; Case Code (Imperial): 0603; Case Code (Metric): 1608; Min Operating Temperature: -55°C; Max Operating Temperature: 155°C; Tolerance: 1%; Temperature Coefficient: 100ppm/°C; Resistor Type: Thick Film; Packaging: Tape and Reel; Termination: SMD/SMT; Voltage Rating (DC): 50V; Number of Terminations: 2; Features: Moisture Resistant; Series: RC; Max Power Dissipation: 100mW; Construction: Rectangular; Technology: METAL OXIDE FILM; Length: 1.6mm; Depth: 0.8mm; Military Standard: Not; Lead Free: Lead Free; RoHS Compliant: Yes; ComponentLink1URL: https://datasheet.ciiva.com/8893/pyu-rc0603-51-rohs-l-4-8893463.pdf?src-supplier=Avnet; ComponentLink1Description: https://datasheet.ciiva.com/8893/pyu-rc0603-51-rohs-l-4-8893463.pdf?src-supplier=Avnet
footprint Resistor_3.74k
pins: 1, 2

## Resistor_4.99k
designator R?
Res General Purpose Thick Film 0603 4.99k Ohm 1% 1/10W ±100ppm/°C Molded Paper T/R; Manufacturer: Yageo; Manufacturer Part Number: RC0603FR-074K99L; Resistance: 4.99kR; Voltage Rating: 75V; Power Rating: 100mW; Voltage Rating (DC): 50V; Supplier 1: Digi-Key; Supplier Part Number 1: 311-4.99KHRCT-ND; RoHS: Yes; Category: Chip SMD Resistors; Stock 1: 343463; Pricing 1: 1=0.10000, 10=0.02400, 100=0.00970, 1000=0.00436, 2500=0.00378 (USD); Case/Package: 0603; Number of Pins: 2; Case Code (Imperial): 0603; Case Code (Metric): 1608; Weight: 7.1E-05oz; Size Code: 0603; Min Operating Temperature: -55°C; Max Operating Temperature: 155°C; Tolerance: 1%; Resistor Type: Thick Film; Temperature Coefficient: 100ppm/°C; Packaging: Tape and Reel; Package Quantity: 1; Termination: SMD/SMT; Number of Terminations: 2; Max Power Dissipation: 100mW; Features: Moisture Resistant; Series: RC; Construction: Rectangular; Resistance Tolerance: 1%; Length: 1.6mm; Width: 0.8mm; Height: 0.022inch; Depth: 0.8mm; REACH SVHC: Unknown; Military Standard: Not; Lead Free: Lead Free; RoHS Compliant: Yes; ComponentLink1URL: https://datasheet.ciiva.com/2453/pyu-r-int-thick-7-2453979.pdf?src-supplier=Digi-Key; ComponentLink1Description: https://datasheet.ciiva.com/2453/pyu-r-int-thick-7-2453979.pdf?src-supplier=Digi-Key; ComponentLink2URL: https://datasheet.ciiva.com/2453/pyu-r-int-thick-7-2453980.pdf?src-supplier=Digi-Key; ComponentLink2Description: https://datasheet.ciiva.com/2453/pyu-r-int-thick-7-2453980.pdf?src-supplier=Digi-Key; ComponentLink3URL: https://datasheet.ciiva.com/2453/pyu-r-int-thick-7-2453981.pdf?src-supplier=Digi-Key; ComponentLink3Description: https://datasheet.ciiva.com/2453/pyu-r-int-thick-7-2453981.pdf?src-supplier=Digi-Key; ComponentLink4URL: https://datasheet.ciiva.com/7983/443971-7983646.pdf?src-supplier=Element14; ComponentLink4Description: https://datasheet.ciiva.com/7983/443971-7983646.pdf?src-supplier=Element14; ComponentLink5URL: https://datasheet.ciiva.com/22747/443971-22747529.pdf?src-supplier=Element14; ComponentLink5Description: https://datasheet.ciiva.com/22747/443971-22747529.pdf?src-supplier=Element14
footprint Resistor_4.99k
pins: 1 R1, 2 R2

## Resistor_10k
designator R?
Res Thin Film 0805 10K Ohm 1% 1/10W ±50ppm/°C Molded SMD SMD Paper T/R; Manufacturer: TE Connectivity Neohm; Manufacturer Part Number: CPF0805F10KC1; Resistance: 10kR; Max Power Dissipation: 100mW; Number of Resistors: 1; Voltage Rating: 100V; Supplier 1: Mouser; Supplier Part Number 1: 279-CPF0805F10KC1; RoHS: Yes; Category: Chip SMD Resistors; Stock 1: 2893; Pricing 1: 1=0.12000, 10=0.10000, 50=0.10000, 100=0.05400, 1000=0.02200, 10000=0.02200 (USD); Mount: Surface Mount; Case/Package: 0805; Min Operating Temperature: -55°C; Max Operating Temperature: 155°C; Packaging: Tape and Reel; Number of Terminations: 2; Temperature Coefficient: 50ppm/°C; Tolerance: 1%; Series: CPF, Neohm; Power Rating: 100mW; Termination: Solder; RoHS Compliant: Yes; ELV: Compliant; ComponentLink1URL: https://www.te.com/commerce/DocumentDelivery/DDEController?Action=srchrtrv&amp;DocNm=1773200&amp;DocType=DS&amp;DocLang=English&src-supplier=Digi-Key; ComponentLink1Description: https://www.te.com/commerce/DocumentDelivery/DDEController?Action=srchrtrv&amp;DocNm=1773200&amp;DocType=DS&amp;DocLang=English&src-supplier=Digi-Key
footprint Resistor_10k
pins: 1, 2

## Resistor_10ohm
designator R?
RES TF 1/10W 10 OHM 1% 0603; Manufacturer: Yageo; Manufacturer Part Number: RT0603DRE0710RL; Resistance: 10R; Tolerance: 0.5%; Temperature Coefficient: 50ppm/°C; Max Power Dissipation: 100mW; Voltage Rating (DC): 50V; Supplier 1: Mouser; Supplier Part Number 1: 603-RT0603DRE0710RL; RoHS: Yes; Category: Chip SMD Resistors; Stock 1: 9956; Pricing 1: 1=0.16000, 10=0.10500, 50=0.10500, 100=0.04100, 1000=0.02100, 10000=0.01300 (USD); Case/Package: 0603; Contact Plating: Tin,Matte; Case Code (Metric): 1608; Case Code (Imperial): 0603; Min Operating Temperature: -55°C; Max Operating Temperature: 155°C; Resistor Type: Thin Film; Package Quantity: 5000; Packaging: Tape and Reel; Number of Terminations: 2; Features: Moisture Resistant; Series: RT; Length: 0.063inch; Width: 0.031inch; Height: 0.022inch; Radiation Hardening: No; RoHS Compliant: Yes; Lead Free: Lead Free; ComponentLink1URL: https://datasheet.ciiva.com/8891/pyu-rt-1-to-0-05-rohs-l-4-8891368.pdf?src-supplier=Avnet; ComponentLink1Description: https://datasheet.ciiva.com/8891/pyu-rt-1-to-0-05-rohs-l-4-8891368.pdf?src-supplier=Avnet; ComponentLink2URL: https://datasheet.ciiva.com/2565/pyu-rt-1-to-0-05-rohs-l-5-2565943.pdf?src-supplier=Digi-Key; ComponentLink2Description: https://datasheet.ciiva.com/2565/pyu-rt-1-to-0-05-rohs-l-5-2565943.pdf?src-supplier=Digi-Key; Supplier 2: Digi-Key; Supplier Part Number 2: RMCF0603FT10R0TR-ND; Stock 2: 6764342; Pricing 2: 5000=0.00218 (USD); Mount: Surface Mount; Power Rating: 100mW; Construction: Rectangular; Depth: 0.8mm; Military Standard: Not; ComponentLink3URL: http://components.arrow.com/part/dataview/44988319S6756893N1174?src-supplier=Arrow+Electronics; ComponentLink3Description: http://components.arrow.com/part/dataview/44988319S6756893N1174?src-supplier=Arrow+Electronics; ComponentLink4URL: https://www.seielect.com/catalog/SEI-Packaging.pdf?src-supplier=Digi-Key; ComponentLink4Description: https://www.seielect.com/catalog/SEI-Packaging.pdf?src-supplier=Digi-Key; ComponentLink5URL: https://www.seielect.com/catalog/SEI-RMCF_RMCP.pdf?src-supplier=Avnet; ComponentLink5Description: https://www.seielect.com/catalog/SEI-RMCF_RMCP.pdf?src-supplier=Avnet; ComponentLink6URL: https://www.seielect.com/catalog/SEI-RMCF_RMCP.pdf?src-supplier=Avnet+Asia; ComponentLink6Description: https://www.seielect.com/catalog/SEI-RMCF_RMCP.pdf?src-supplier=Avnet+Asia; ComponentLink7URL: https://www.verical.com/server-webapp/html/getDatasheet?partID=372827&src-supplier=Verical; ComponentLink7Description: https://www.verical.com/server-webapp/html/getDatasheet?partID=372827&src-supplier=Verical
footprint Resistor_10ohm
pins: 1, 2

## Resistor_11.5k
designator R?
Res 11.5K Ohm 0.5% 1/10W 0603; Manufacturer: KOA Speer; Manufacturer Part Number: RN73R1JTTD1152D100; Supplier 1: Digi-Key; Supplier Part Number 1: 2019-RN73R1JTTD1152D100CT-ND; RoHS: Yes; Category: Chip SMD Resistors; Pricing 1: 1000=0.05712 (USD)
footprint Resistor_11.5k
pins: 1, 2

## Resistor_29.4k
designator R?
Res Thick Film 0402 29.4K Ohm 1% 0.063W ±100ppm/°C Molded SMD Paper T/R; Manufacturer: KOA Speer; Manufacturer Part Number: RN73R2ATTD2942F50; Resistance: 29.4kR; Max Power Dissipation: 63mW; Supplier 1: Digi-Key; Supplier Part Number 1: 2019-RN73R2ATTD2942F50CT-ND; RoHS: Yes; Category: Chip SMD Resistors; Pricing 1: 1000=0.06962 (USD); Supplier 2: Digi-Key; Supplier Part Number 2: RMCF0402FT29K4CT-ND; Stock 2: 88848; Pricing 2: 1=0.10000, 10=0.01500, 100=0.00610, 1000=0.00274, 2500=0.00238, 5000=0.00197 (USD); Mount: Surface Mount; Case/Package: 0402; Case Code (Metric): 1005; Case Code (Imperial): 0402; Contact Plating: Tin,Matte; Min Operating Temperature: -55°C; Max Operating Temperature: 155°C; Packaging: Tape and Reel; Tolerance: 1%; Resistor Type: Thick Film; Number of Terminations: 2; Temperature Coefficient: 100ppm/°C; Features: Automotive AEC-Q200; Series: RMCF; Length: 0.039inch; Width: 0.02inch; Height: 0.016inch; Radiation Hardening: No; Lead Free: Lead Free; RoHS Compliant: Yes; ComponentLink1URL: https://www.seielect.com/Catalog/SEI-RMCF_RMCP.pdf?src-supplier=Digi-Key; ComponentLink1Description: https://www.seielect.com/Catalog/SEI-RMCF_RMCP.pdf?src-supplier=Digi-Key; ComponentLink2URL: https://www.seielect.com/catalog/SEI-RMCF_RMCP.pdf?src-supplier=Avnet; ComponentLink2Description: https://www.seielect.com/catalog/SEI-RMCF_RMCP.pdf?src-supplier=Avnet
footprint Resistor_29.4k
pins: 1, 2

## Resistor_50mohms
designator R?
Res Thick Film 0805 50m Ohm 1% 1/4W ±100ppm/°C Molded SMD T/R; Manufacturer: Bourns; Manufacturer Part Number: CRM0805-FW-R050ELF; Resistance: 50mR; Power Rating: 250mW; Voltage Rating: 477mV; Temperature Coefficient: 200ppm/°C; Supplier 1: Digi-Key; Supplier Part Number 1: CRM0805-FW-R050ELFCT-ND; RoHS: Yes; Category: Chip SMD Resistors; Stock 1: 4738; Pricing 1: 1=0.67000, 10=0.56000, 25=0.48000, 50=0.43200, 100=0.37600, 250=0.33600, 500=0.27200, 1000=0.22000 (USD); Case/Package: 0805; Number of Pins: 2; Case Code (Metric): 2012; Case Code (Imperial): 0805; Min Operating Temperature: -55°C; Max Operating Temperature: 155°C; Packaging: Tape and Reel; Package Quantity: 1; Tolerance: 1%; Resistor Type: Thick Film; Number of Terminations: 2; Max Power Dissipation: 250mW; Series: CRM0805; Resistance Tolerance: 1%; Length: 0.079inch; Width: 0.047inch; Height: 0.024inch; REACH SVHC: No SVHC; RoHS Compliant: Yes; ComponentLink1URL: https://datasheet.ciiva.com/6564/crm0805-1206-2010-6564006.pdf?src-supplier=Digi-Key; ComponentLink1Description: https://datasheet.ciiva.com/6564/crm0805-1206-2010-6564006.pdf?src-supplier=Digi-Key; ComponentLink2URL: https://datasheet.ciiva.com/6564/crm0805-1206-2010-6564007.pdf?src-supplier=Digi-Key; ComponentLink2Description: https://datasheet.ciiva.com/6564/crm0805-1206-2010-6564007.pdf?src-supplier=Digi-Key; ComponentLink3URL: https://datasheet.ciiva.com/6564/crm0805-1206-2010-6564008.pdf?src-supplier=Digi-Key; ComponentLink3Description: https://datasheet.ciiva.com/6564/crm0805-1206-2010-6564008.pdf?src-supplier=Digi-Key; ComponentLink4URL: https://datasheet.ciiva.com/7985/1859481-7985934.pdf?src-supplier=Element14; ComponentLink4Description: https://datasheet.ciiva.com/7985/1859481-7985934.pdf?src-supplier=Element14; ComponentLink5URL: https://datasheet.ciiva.com/22693/1859481-22693285.pdf?src-supplier=Element14; ComponentLink5Description: https://datasheet.ciiva.com/22693/1859481-22693285.pdf?src-supplier=Element14
footprint Resistor_50mohms
pins: 1 (io), 2 (io)

## SAMW25H18-MR510PB
designator U?
RF TXRX MODULE WIFI TRACE ANT; Manufacturer: Atmel; Manufacturer Part Number: ATSAMW25H18-MR510PB; Protocol: 802.11b/g/n; Frequency: 2.4GHz; Data Rate: 65Mbps; Power - Output: 17dBm; Sensitivity: -95.5dBm; Serial Interfaces: SPI, UART; Antenna Type: Integrated, Trace; Memory Size: 256kB Flash, 32kB SRAM; Voltage - Supply: 2.7 V ~ 4.2 V; Category: RF/IF and RFID; Family: RF Transceiver Modules; Series: Xplained Pro; Packaging: Tray; RF Family/Standard: WiFi; Modulation: -; Current - Receiving: -; Current - Transmitting: -; Mounting Type: Surface Mount; Operating Temperature: -40°C ~ 85°C; Package / Case: Module; ComponentLink1URL: http://www.atmel.com/devices/ATSAMW25.aspx; ComponentLink1Description: http://www.atmel.com/devices/ATSAMW25.aspx; ComponentLink2URL: http://www.farnell.com/datasheets/1965115.pdf; ComponentLink2Description: http://www.farnell.com/datasheets/1965115.pdf; Supplier 1: Digikey; Stock 1: 120; Pricing 1: 1=19.14 (USD); Supplier Part Number 1: ATSAMW25H18-MR510PB-ND
footprint SAMW25H18-MR510PB
pins: 0 GND (power), 1 GND (power), 2 UART TXD (out), 3 UART RXD (in), 4 CHIP EN (in), 5 GPIO_1 (io), 6 GPIO NC/3 (io), 7 VBAT (power), 8 PA16 (io), 9 PA17 (io), 10 GND (power), 11 PA18 (io), 12 PA19 (io), 13 PA20/Host UART RXD (io), 14 PA21/Host UART TXD (io), 15 PA22/Host SPI MISO (io), 16 PA23/Host SPI MOSI (io), 17 GND (power), 18 PA24/Host SPI SSN (io), 19 PA25/Host SPI SCK (io), 20 GND (power), 21 VCC (power), 22 PB22 (io), 23 PB23 (io), 24 RESETN Host (in), 25 PA30 / SWDCLK (io), 26 PA31 / SWDIO (io), 27 PB02 (io), 28 PB03 (io), 29 PA00 / XIN32 (io), 30 PA01 / XOUT32 (io), 31 PA02 (io), 32 GND (power), 33 PA03 (io), 34 PA04 (io), 35 PA05 (io), 36 PA06 (io), 37 PA07 (io), 38 PA08 (io), 39 PA09 (io), 40 PA10 (io), 41 PA11 (io), 42 GND (power), 43 PB10 (io), 44 PB11 (io), 45 GPIO 15/4 (io), 46 GPIO 16/5 (io), 47 GPIO 18/6 (io), 48 I2C SCL (io), 49 I2C SDA (io), 50 RESETN WIFI (in), 51 GND (power)

## Schottkey_Diode_20V_4A
designator D?
SL42 Series 20 V 2 A Surface Mount Schottky Barrier Rectifier - DO-214AB (SMC); Manufacturer: ON Semiconductor; Manufacturer Part Number: MBRS320T3; Max Surge Current: 80A; Average Rectified Current: 4A; Element Configuration: Single; Polarity: Standard; Voltage Rating (DC): 20V; Current Rating: 3A; Max Reverse Leakage Current: 2mA; Forward Voltage: 470mV; Max Reverse Current: 500uA; Peak Non-Repetitive Surge Current: 150A; Supplier 1: Digi-Key; Supplier Part Number 1: MBRS320T3OSCT-ND; RoHS: No; Category: Schottky Diodes; Case/Package: SMC; Number of Pins: 2; Min Operating Temperature: -65°C; Max Operating Temperature: 125°C; Package Quantity: 1; Packaging: Tape and Reel; Output Current: 3A; Max Reverse Voltage (DC): 20V; Max Forward Surge Current (Ifsm): 80A; Series: -; Lead Free: Contains Lead; RoHS Compliant: No; ComponentLink1URL: https://datasheet.ciiva.com/4719/mbrs340t3-d-302035-4719013.pdf?src-supplier=Mouser; ComponentLink1Description: https://datasheet.ciiva.com/4719/mbrs340t3-d-302035-4719013.pdf?src-supplier=Mouser; ComponentLink2URL: https://datasheet.ciiva.com/927/mbrs340t3-d-927080.pdf?src-supplier=Digi-Key; ComponentLink2Description: https://datasheet.ciiva.com/927/mbrs340t3-d-927080.pdf?src-supplier=Digi-Key; Supplier 2: Digi-Key; Supplier Part Number 2: SL42-E3/57TGICT-ND; Stock 2: 402; Pricing 2: 1=1.01000, 10=0.88500, 100=0.67820 (USD); Mount: Surface Mount; Forward Current: 4A; Max Repetitive Reverse Voltage (Vrrm): 20V; Radiation Hardening: No; REACH SVHC: Unknown; ComponentLink3URL: https://datasheet.ciiva.com/4714/88742-103296-4714672.pdf?src-supplier=Mouser; ComponentLink3Description: https://datasheet.ciiva.com/4714/88742-103296-4714672.pdf?src-supplier=Mouser; ComponentLink4URL: https://datasheet.ciiva.com/4246/sl42-4246044.pdf?src-supplier=Arrow+Electronics; ComponentLink4Description: https://datasheet.ciiva.com/4246/sl42-4246044.pdf?src-supplier=Arrow+Electronics; ComponentLink5URL: https://datasheet.ciiva.com/23793/1691224-23793280.pdf?src-supplier=Newark; ComponentLink5Description: https://datasheet.ciiva.com/23793/1691224-23793280.pdf?src-supplier=Newark; ComponentLink6URL: https://datasheet.ciiva.com/16355/sl42-16355184.pdf?src-supplier=Future+Electronics; ComponentLink6Description: https://datasheet.ciiva.com/16355/sl42-16355184.pdf?src-supplier=Future+Electronics; ComponentLink7URL: https://datasheet.ciiva.com/25937/sl42-25937965.pdf?src-supplier=Avnet+Europe; ComponentLink7Description: https://datasheet.ciiva.com/25937/sl42-25937965.pdf?src-supplier=Avnet+Europe
footprint Schottkey Diode_20V_4A
pins: 1 K, 2 A